# Altium schematic symbol library 35TFT.SchLib: 1 symbol
Pins are listed as number, name and electrical type; pins without a type are passive.

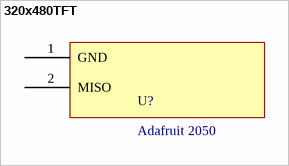
[diagram p0: symbol 320x480TFT]

## 320x480TFT
designator U?, comment Adafruit 2050
Color! Lights! Touch! 8-Bit! SPI! MicroSD Card! 320x480 pixels!
footprint Adafruit 2050 TFT
pins: 1 GND, 2 MISO